# EAGLE library part HRS_DM3B (library connectors)
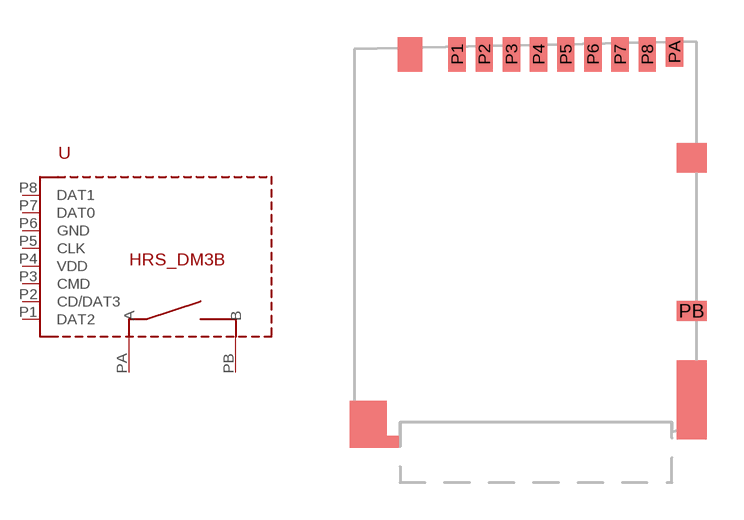
[diagram p8: symbol with the pads of HRS_DM3B; footprint HRS_DM3B]

Designator prefix -

## HRS_DM3B  [HRS_DM3B]
P1  DAT2
P2  CD/DAT3
P3  CMD
P4  VDD  pwr
P5  CLK
P6  GND  pwr
P7  DAT0
P8  DAT1
PA  A
PB  B

## Footprint HRS_DM3B (pad centres in mm)
smd 0.7 x 1.4: P1 -3.2,-0.2; P2 -2.1,-0.2; P3 -1,-0.2; P4 0.1,-0.2; P5 1.2,-0.2; P6 2.3,-0.2; P7 3.4,-0.2; P8 4.5,-0.2
smd 0.7 x 1.2: PA 5.6,-0.1
smd 1.2 x 0.8: PB 6.3,-10.6